# EAGLE library part MICROVIEW-16 (library microView-temp)
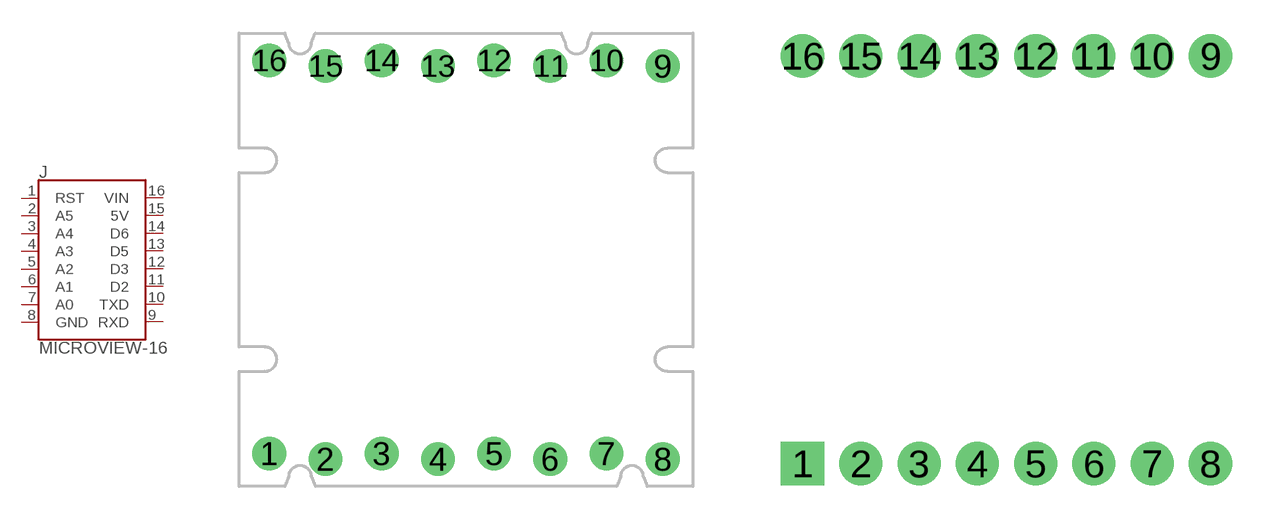
[diagram p1: symbol with the pads of MV-DIP16; footprints MV-DIP16, MV-DIP16-NODIMENSION]

Designator prefix J

## MICROVIEW-16  [MV-DIP16]
1  RST  out
2  A5  out
3  A4  out
4  A3  out
5  A2  out
6  A1  out
7  A0  out
8  GND  out
9  RXD  out
10  TXD  out
11  D2  out
12  D3  out
13  D5  out
14  D6  out
15  5V  out
16  VIN  out

## MICROVIEW-16ND  [MV-DIP16-NODIMENSION]
Pads as for MV-DIP16

## Footprint MV-DIP16 (pad centres in mm)
drill 1.016: 1 -8.89,-8.763; 2 -6.35,-9.017; 3 -3.81,-8.763; 4 -1.27,-9.017; 5 1.27,-8.763; 6 3.81,-9.017; 7 6.35,-8.763; 8 8.89,-9.017; 9 8.89,8.763; 10 6.35,9.017; 11 3.81,8.763; 12 1.27,9.017; 13 -1.27,8.763; 14 -3.81,9.017; 15 -6.35,8.763; 16 -8.89,9.017

## Footprint MV-DIP16-NODIMENSION (pad centres in mm)
drill 1.016 pad 1.88 square: 1 0,0
drill 1.016 pad 1.88: 2 2.54,0; 3 5.08,0; 4 7.62,0; 5 10.16,0; 6 12.7,0; 7 15.24,0; 8 17.78,0; 9 17.78,17.78; 10 15.24,17.78; 11 12.7,17.78; 12 10.16,17.78; 13 7.62,17.78; 14 5.08,17.78; 15 2.54,17.78; 16 0,17.78